# Altium footprint library MaWei.PcbLib: 84 footprints (part 3 of 6)
Each footprint in its own frame and in the unit in brackets; x right, y up, seen from the top. Pads: shape width x height; smd on the part's side, far side on the other; paste and mask are expansions set on the pad; w line width, h text height; cw(c..) or ccw(c..) is an arc to the next point about the centre after c.
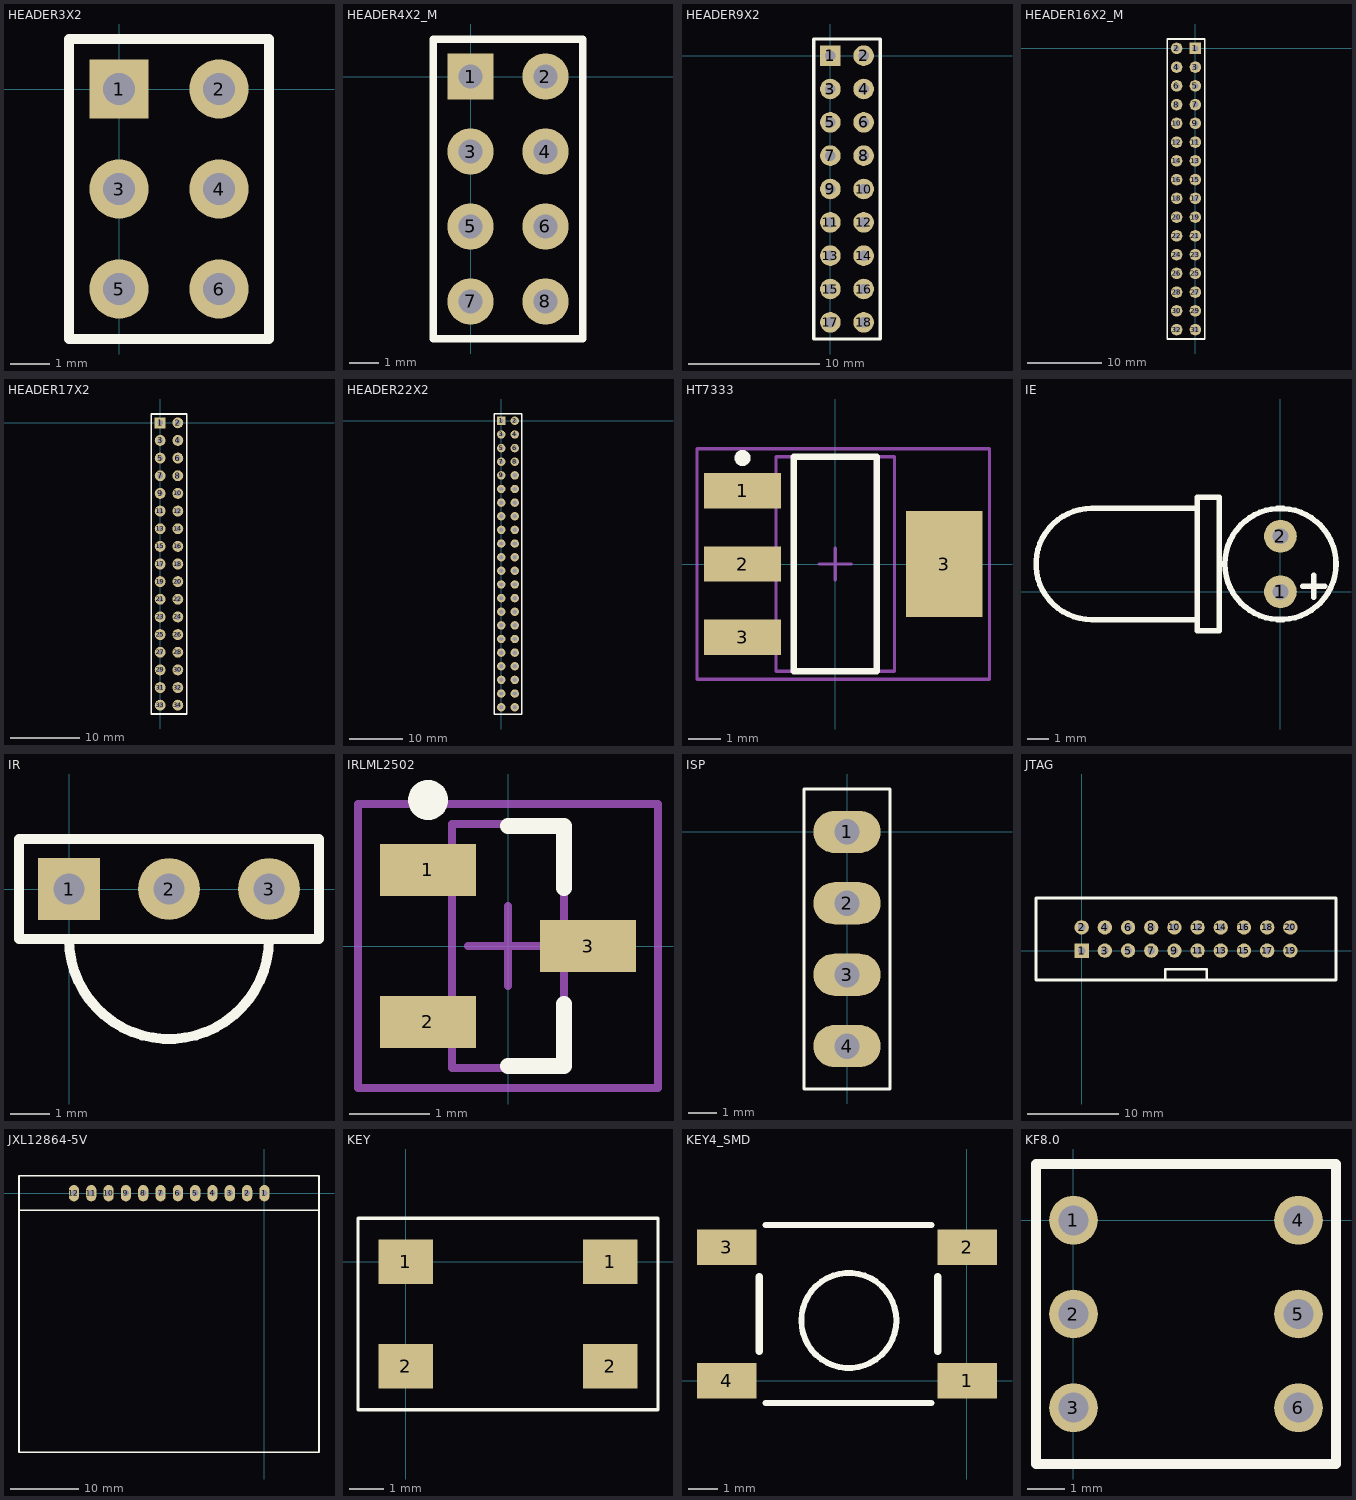
[diagram p2: the footprints below, top view; thin cyan lines are the x and y axes]

## HEADER3X2 [mm] "HEADER3X2"
pads (6):
  rect 1.5x1.5 hole 0.81: 1(0,0)
  round 1.5 hole 0.81: 2(2.54,0) 3(0,-2.54) 4(2.54,-2.54) 5(0,-5.08) 6(2.54,-5.08)
Top Overlay:
  lines w0.254: -1.27,-6.35 -1.27,1.27 3.81,1.27 3.81,-6.35 -1.27,-6.35
3D body: height 10.1, standoff -1.5, extent -1.27,-6.35 3.81,1.27

## HEADER4X2_M [mm] "HEADER4X2_M"
pads (8):
  rect 1.57x1.57 hole 0.8: 1(0,0)
  round 1.57 hole 0.8: 2(2.54,0) 3(0,-2.54) 4(2.54,-2.54) 5(0,-5.08) 6(2.54,-5.08) 7(0,-7.62) 8(2.54,-7.62)
Top Overlay:
  lines w0.254: -1.27,-8.89 -1.27,1.27 3.81,1.27 3.81,-8.89 -1.27,-8.89

## HEADER9X2 [mm] "HEADER9X2"
pads (18):
  rect 1.57x1.57 hole 0.8: 1(0,0)
  round 1.57 hole 0.8: 2(2.54,0) 3(0,-2.54) 4(2.54,-2.54) 5(0,-5.08) 6(2.54,-5.08) 7(0,-7.62) 8(2.54,-7.62) 9(0,-10.16) 10(2.54,-10.16) 11(0,-12.7) 12(2.54,-12.7) 13(0,-15.24) 14(2.54,-15.24) 15(0,-17.78) 16(2.54,-17.78) 17(0,-20.32) 18(2.54,-20.32)
Top Overlay:
  lines w0.254: -1.27,-21.59 3.81,-21.59 3.81,1.27 -1.27,1.27 -1.27,-21.59

## HEADER16X2_M [mm] "HEADER16X2_M"
pads (32):
  rect 1.57x1.57 hole 0.8: 1(0,0)
  round 1.57 hole 0.8: 2(-2.54,0) 3(0,-2.54) 4(-2.54,-2.54) 5(0,-5.08) 6(-2.54,-5.08) 7(0,-7.62) 8(-2.54,-7.62) 9(0,-10.16) 10(-2.54,-10.16) 11(0,-12.7) 12(-2.54,-12.7) 13(0,-15.24) 14(-2.54,-15.24) 15(0,-17.78) 16(-2.54,-17.78) 17(0,-20.32) 18(-2.54,-20.32) 19(0,-22.86) 20(-2.54,-22.86) 21(0,-25.4) 22(-2.54,-25.4) 23(0,-27.94) 24(-2.54,-27.94) 25(0,-30.48) 26(-2.54,-30.48) 27(0,-33.02) 28(-2.54,-33.02) 29(0,-35.56) 30(-2.54,-35.56) 31(0,-38.1) 32(-2.54,-38.1)
Top Overlay:
  lines w0.254: -3.81,-39.37 1.27,-39.37 1.27,1.27 -3.81,1.27 -3.81,-39.37

## HEADER17X2 [mm] "HEADER17X2"
pads (34):
  rect 1.57x1.57 hole 0.81: 1(0,0)
  round 1.57 hole 0.81: 2(2.54,0) 3(0,-2.54) 4(2.54,-2.54) 5(0,-5.08) 6(2.54,-5.08) 7(0,-7.62) 8(2.54,-7.62) 9(0,-10.16) 10(2.54,-10.16) 11(0,-12.7) 12(2.54,-12.7) 13(0,-15.24) 14(2.54,-15.24) 15(0,-17.78) 16(2.54,-17.78) 17(0,-20.32) 18(2.54,-20.32) 19(0,-22.86) 20(2.54,-22.86) 21(0,-25.4) 22(2.54,-25.4) 23(0,-27.94) 24(2.54,-27.94) 25(0,-30.48) 26(2.54,-30.48) 27(0,-33.02) 28(2.54,-33.02) 29(0,-35.56) 30(2.54,-35.56) 31(0,-38.1) 32(2.54,-38.1) 33(0,-40.64) 34(2.54,-40.64)
Top Overlay:
  lines w0.254: -1.27,-41.91 3.81,-41.91 3.81,1.27 -1.27,1.27 -1.27,-41.91

## HEADER22X2 [mm] "HEADER22X2"
pads (44):
  rect 1.57x1.57 hole 0.81: 1(0,0)
  round 1.57 hole 0.81: 2(2.54,0) 3(0,-2.54) 4(2.54,-2.54) 5(0,-5.08) 6(2.54,-5.08) 7(0,-7.62) 8(2.54,-7.62) 9(0,-10.16) 10(2.54,-10.16) 11(0,-12.7) 12(2.54,-12.7) 13(0,-15.24) 14(2.54,-15.24) 15(0,-17.78) 16(2.54,-17.78) 17(0,-20.32) 18(2.54,-20.32) 19(0,-22.86) 20(2.54,-22.86) 21(0,-25.4) 22(2.54,-25.4) 23(0,-27.94) 24(2.54,-27.94) 25(0,-30.48) 26(2.54,-30.48) 27(0,-33.02) 28(2.54,-33.02) 29(0,-35.56) 30(2.54,-35.56) 31(0,-38.1) 32(2.54,-38.1) 33(0,-40.64) 34(2.54,-40.64) 35(0,-43.18) 36(2.54,-43.18) 37(0,-45.72) 38(2.54,-45.72) 39(0,-48.26) 40(2.54,-48.26) 41(0,-50.8) 42(2.54,-50.8) 43(0,-53.34) 44(2.54,-53.34)
Top Overlay:
  lines w0.254: -1.27,-54.61 -1.27,1.27 3.81,1.27 3.81,-54.61 -1.27,-54.61

## HT7333 [mm]
height 2
pads (4):
  rect 2.4x1.1 smd: 1(-2.9,2.29) 2(-2.9,0) 3(-2.9,-2.29)
  rect 2.4x3.3 smd: 3(3.408,0)
Top Overlay:
  circle w0.25: c-2.9,3.315 r0.125
  lines w0.2: -1.3,-3.355 -1.3,3.355 1.3,3.355 1.3,-3.355 -1.3,-3.355
Mechanical 13:
  lines w0.1: -1.855,-3.355 -1.855,3.355 1.855,3.355 1.855,-3.355 -1.855,-3.355
Mechanical 15:
  lines w0.1: -0.5,0 0.5,0 ; 0,-0.5 0,0.5 ; -4.325,-3.605 -4.325,3.605 4.826,3.605 4.826,-3.605 -4.325,-3.605
3D body: height 1.8, standoff 0.02, extent -1.855,-3.355 1.855,3.355

## IE [mm] "IE"
pads (2):
  round 1.5 hole 0.72: 1(0,0) 2(0,2.54)
Top Overlay:
  circle w0.254: c0,1.27 r2.54
  lines w0.254: -3.81,-1.27 -8.636,-1.27 cw(c-8.636,1.27) -8.636,3.81 -3.81,3.81 ; 1.016,0.254 2.032,0.254 ; 1.524,-0.254 1.524,0.762 ; -3.81,-1.778 -2.794,-1.778 -2.794,4.318 -3.81,4.318 -3.81,-1.778

## IR [mm] "IR"
pads (3):
  rect 1.57x1.57 hole 0.8: 1(0,0)
  round 1.57 hole 0.8: 2(2.54,0) 3(5.08,0)
Top Overlay:
  lines w0.254: 0,-1.27 ccw(c2.54,-1.27) 5.08,-1.27 ; -1.27,-1.27 -1.27,1.27 6.35,1.27 6.35,-1.27 -1.27,-1.27

## IRLML2502 [mm] "SOT23, 3-Leads, Body 3.0x2.5mm (max), Pitch 0.95mm, IPC Medium Density"
height 1.1
pads (3):
  rect 1.2x0.65 smd: 1(-1,0.95) 2(-1,-0.95) 3(1,0)
Top Overlay:
  circle w0.25: c-1,1.825 r0.125
  lines w0.2: 0,-1.5 0.7,-1.5 0.7,-0.725 ; 0,1.5 0.7,1.5 0.7,0.725
Mechanical 13:
  lines w0.1: -0.7,-1.525 -0.7,1.525 0.7,1.525 0.7,-1.525 -0.7,-1.525
Mechanical 15:
  lines w0.1: -0.5,0 0.5,0 ; 0,-0.5 0,0.5 ; -1.875,-1.775 -1.875,1.775 1.875,1.775 1.875,-1.775 -1.875,-1.775
3D body: height 1.1, standoff 0.02, extent -0.7,-1.525 0.7,1.525

## ISP [mm]
pads (4):
  oval 2.4x1.5 hole 0.9: 1(0,0) 2(0,-2.54) 3(0,-5.08) 4(0,-7.62)
Top Overlay:
  lines w0.1: -1.524,-9.144 1.524,-9.144 1.524,1.524 -1.524,1.524 -1.524,-9.144

## JTAG [mm] "JTAG"
pads (20):
  rect 1.57x1.57 hole 0.82: 1(0,0)
  round 1.57 hole 0.82: 2(0,2.54) 3(2.54,0) 4(2.54,2.54) 5(5.08,0) 6(5.08,2.54) 7(7.62,0) 8(7.62,2.54) 9(10.16,0) 10(10.16,2.54) 11(12.7,0) 12(12.7,2.54) 13(15.24,0) 14(15.24,2.54) 15(17.78,0) 16(17.78,2.54) 17(20.32,0) 18(20.32,2.54) 19(22.86,0) 20(22.86,2.54)
Top Overlay:
  lines w0.254: 9.144,-3.048 9.144,-2.032 13.716,-2.032 13.716,-3.23
  lines w0.305: -5,-3.23 27.86,-3.23 27.86,5.77 -5,5.77 -5,-3.23

## JXL12864-5V [mm]
pads (12):
  oval 1.5x2.4 hole 0.9: 1(0,0) 2(-2.54,0) 3(-5.08,0) 4(-7.62,0) 5(-10.16,0) 6(-12.7,0) 7(-15.24,0) 8(-17.78,0) 9(-20.32,0) 10(-22.86,0) 11(-25.4,0) 12(-27.94,0)
Top Overlay:
  lines w0.2: 8,-2.54 -36,-2.54 -36,2.54 8,2.54
  lines w0.254: -36,2.54 -36,-38 8,-38 8,-2.54 8,2.54

## KEY [mm]
pads (4):
  rect 1.6x1.3 smd: 1(0,0) 1(5.969,0) 2(0,-3.048) 2(5.969,-3.048)
Top Overlay:
  lines w0.1: -1.397,-4.318 -1.397,1.27 7.366,1.27 7.366,-4.318 -1.397,-4.318

## KEY4_SMD [mm] "KEY4_SMD"
pads (4):
  rect 2x1.2 smd: 1(0.016,-0.001) 2(0.016,4.499) 3(-8.084,4.499) 4(-8.084,-0.001)
Top Overlay:
  circle w0.2: c-3.972,2.031 r1.6
  lines w0.2: -6.784,-0.751 -1.184,-0.751 ; -6.784,5.249 -1.184,5.249
  lines w0.254: -6.984,0.999 -6.984,3.499 ; -0.984,0.999 -0.984,3.499
3D body: height 5, standoff 0, extent -8.475,-0.7 0.525,5.3

## KF8.0 [mm] "KF8.0"
pads (6):
  round 1.3 hole 0.8: 1(0,0) 2(0,-2.5) 3(0,-5) 4(6,0) 5(6,-2.5) 6(6,-5)
Top Overlay:
  lines w0.254: -1,-6.5 7,-6.5 7,1.5 -1,1.5 -1,-6.5
3D body: height 14, standoff -3.5, extent -1.2,-6.75 7.3,1.75